# Altium schematic symbol library SCH_Mechanical.SchLib: 5 symbols
Pins are listed as number, name and electrical type; pins without a type are passive.

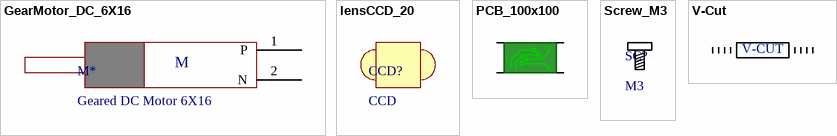
[diagram p0: symbols GearMotor_DC_6X16 to V-Cut]

## GearMotor_DC_6X16
designator M*, comment Geared DC Motor 6X16
Geared DC Motor, 6mm D, L=16mm
footprint Geared_DC_Motor_6X16
pins: 1 P, 2 N
text: M

## lensCCD_20
designator CCD?, comment CCD
footprint CCD_LENS_20MM

## PCB_100x100
designator PCB  (value not drawn)
PCB
footprint PCB_100x100
pins: 1, 2, 3, 4

## Screw_M3
designator SC?, comment M3
Screw
footprint SCRREW_M3

## V-Cut
designator V-Cut  (value not drawn)
PCB
footprint PCB_V-cut
text: V-CUT